# Altium footprint library EEU-HD1HR10.PcbLib: 1 footprints
Each footprint in its own frame and in the unit in brackets; x right, y up, seen from the top. Pads: shape width x height; smd on the part's side, far side on the other; paste and mask are expansions set on the pad; w line width, h text height; cw(c..) or ccw(c..) is an arc to the next point about the centre after c.
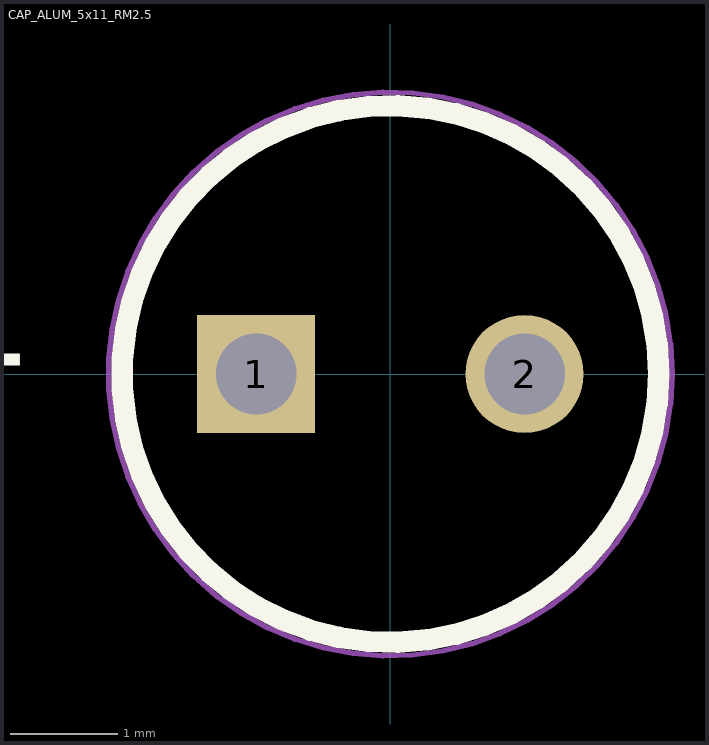
[diagram p0: the footprint, top view; thin cyan lines are the x and y axes]

## CAP_ALUM_5x11_RM2.5 [mm]
pads (2):
  rect 1.1x1.1 hole 0.75: 1(-1.25,0)
  round 1.1 hole 0.75: 2(1.25,0)
Top Overlay:
  circle w0.2: c0,0 r2.5
  text "+" at -3.302,-0.294 h1
Top Designator:
  text ".Designator" at 7.28,-0.508 h1.52
Mechanical 13:
  circle w0.1: c0,0 r2.5
  text "+" at -3.175,-0.294 h1
Mechanical 15:
  circle w0.05: c0,0 r2.625
3D body "step_temp.STEP": height 11, standoff -17, extent -2.493,-2.5 2.5,2.5